# EAGLE library part MAX16907SAUE/V+ (library maxim16907)
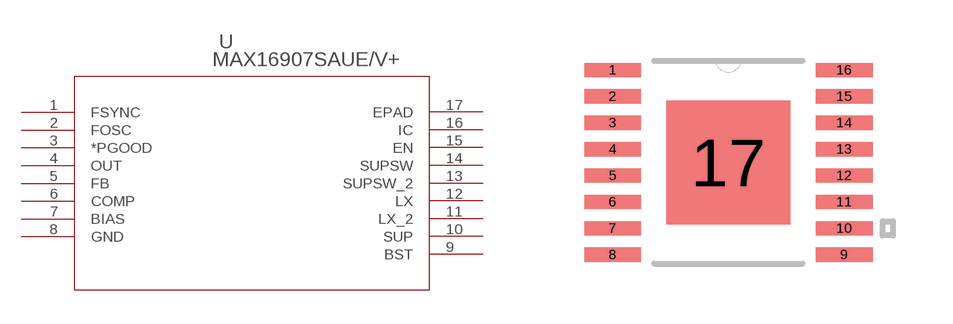
[diagram p0: symbol with the pads of 21-0108G_U16E-3; footprint 21-0108G_U16E-3]

Designator prefix U

## MAX16907SAUE/V+ (MANUFACTURER_NAME: Maxim; MANUFACTURER_PART_NUMBER: MAX16907SAUE/V+; VENDOR: MAXIM)  [21-0108G_U16E-3]
1  FSYNC
2  FOSC
3  *PGOOD
4  OUT  out
5  FB
6  COMP
7  BIAS
8  GND  pwr
9  BST
10  SUP
11  LX_2
12  LX
13  SUPSW_2
14  SUPSW
15  EN
16  IC  pas
17  EPAD  pas

## Footprint 21-0108G_U16E-3 (pad centres in mm)
smd 1.422 x 0.356: 1 -2.896,2.311; 2 -2.896,1.651; 3 -2.896,0.991; 4 -2.896,0.33; 5 -2.896,-0.33; 6 -2.896,-0.991; 7 -2.896,-1.651; 8 -2.896,-2.311; 9 2.896,-2.311; 10 2.896,-1.651; 11 2.896,-0.991; 12 2.896,-0.33; 13 2.896,0.33; 14 2.896,0.991; 15 2.896,1.651; 16 2.896,2.311
smd 3.099 x 3.099: 17 0,0